# Altium schematic symbol library SamacSys.SchLib: 44 symbols
Pins are listed as number, name and electrical type; pins without a type are passive.

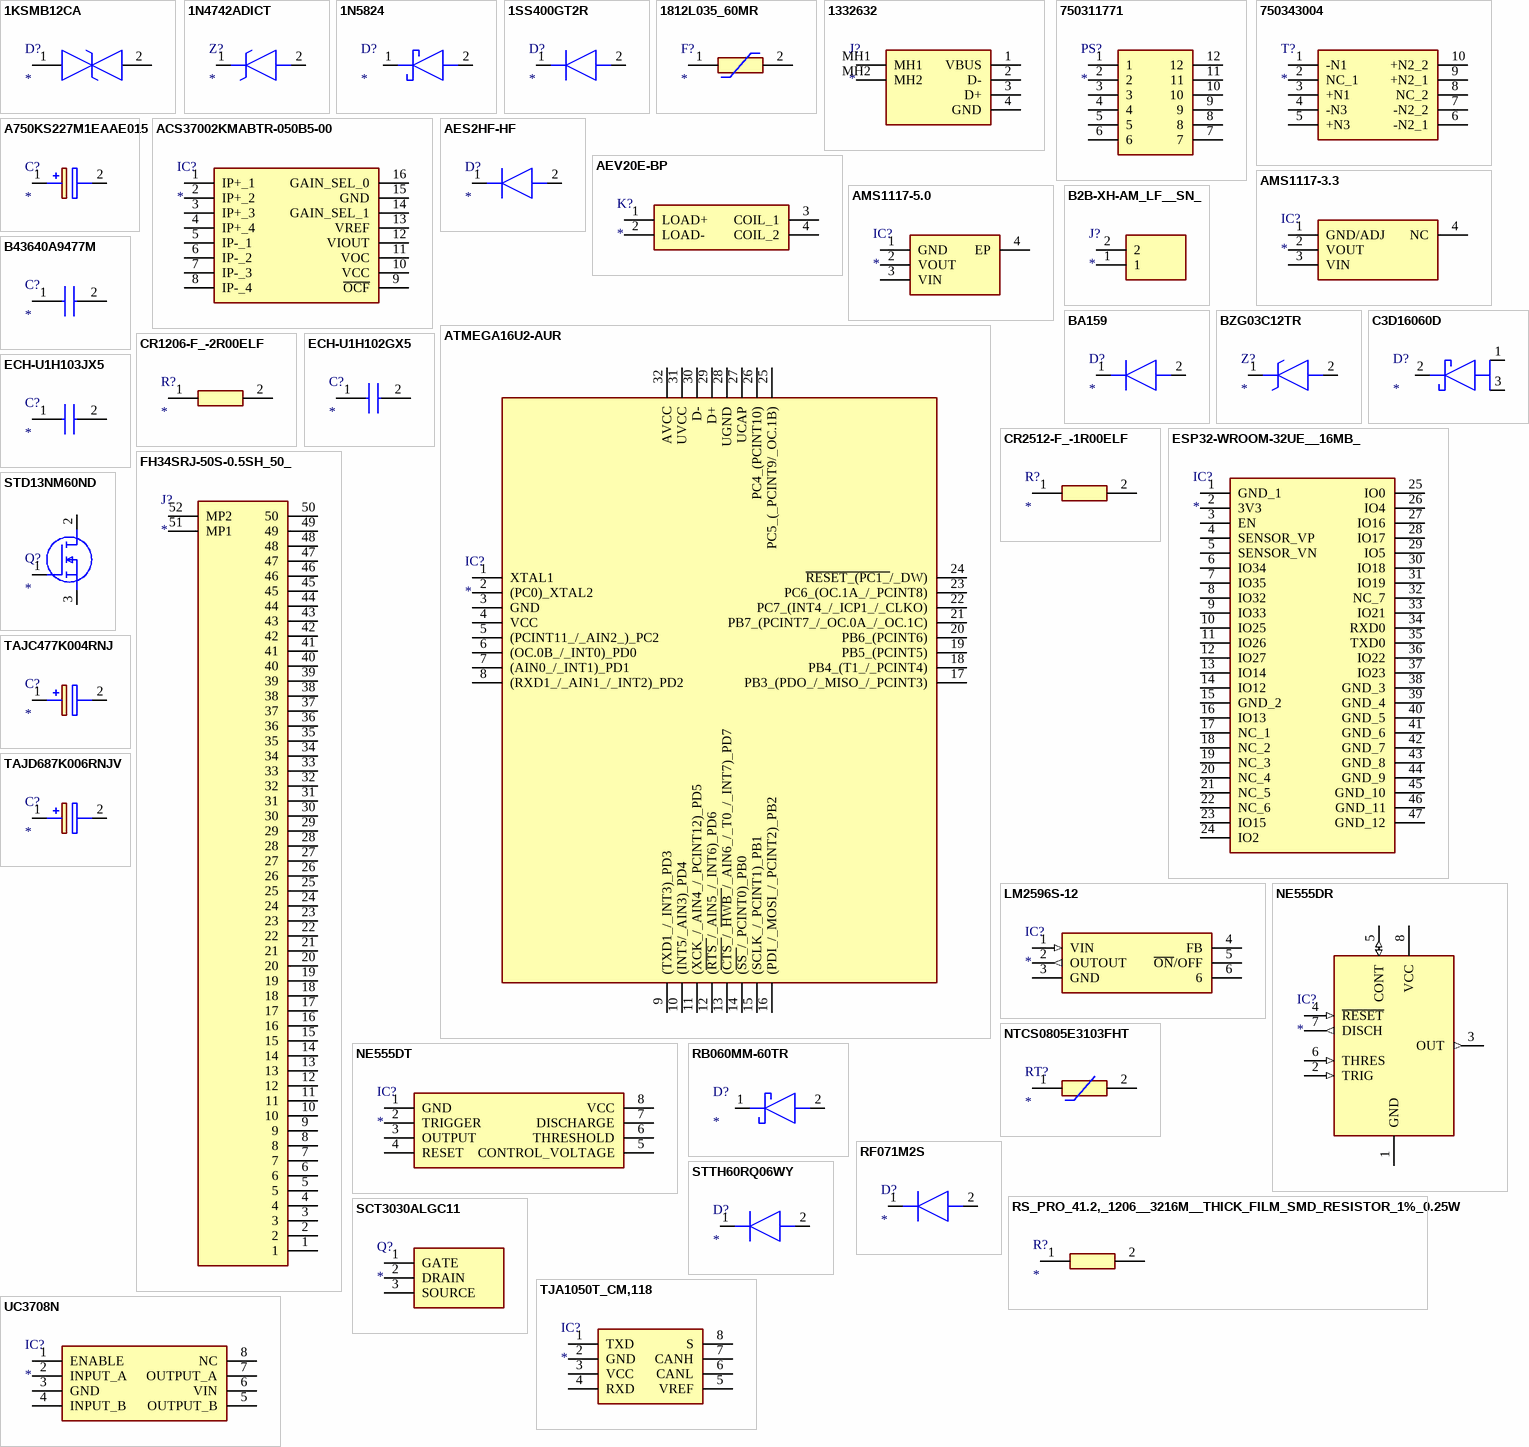
[diagram p0: symbols 1KSMB12CA to UC3708N]

## 1KSMB12CA
designator D?
TVS Diode (Bi-directional); Manufacturer_Name: LITTELFUSE; Manufacturer_Part_Number: 1KSMB12CA; Datasheet Link: https://m.littelfuse.com/~/media/electronics/datasheets/tvs_diodes/littelfuse_tvs_diode_1ksmb_datasheet.pdf.pdf; Height: 2.44mm; Mouser Part Number: 576-1KSMB12CA; Mouser Price/Stock: https://www.mouser.co.uk/ProductDetail/Littelfuse/1KSMB12CA?qs=MLCmBfHNlR40VmEIjryk1g%3D%3D
footprint DIONM5436X244N
pins: 1, 2

## 1N4742ADICT
designator Z?
Zener Diode; Manufacturer_Name: Diodes Incorporated; Manufacturer_Part_Number: 1N4742ADICT; Datasheet Link: https://www.diodes.com/assets/Datasheets/ds18007.pdf
footprint DIOAD1450W86L410D260
pins: 1 K, 2 A

## 1N5824
designator D?
Schottky Diode; Manufacturer_Name: Microchip; Manufacturer_Part_Number: 1N5824; Datasheet Link: https://www.microchip.com/en-us/product/1n5824-rectifier; Height: 11.43mm; Mouser Part Number: 494-1N5824; Mouser Price/Stock: https://www.mouser.co.uk/ProductDetail/Microchip-Technology/1N5824?qs=TXMzd3F6EyleEEWqakQxJw%3D%3D; Arrow Part Number: 1N5824; Arrow Price/Stock: https://www.arrow.com/en/products/1n5824/microchip-technology?utm_currency=USD&region=nac
footprint 1N5824
pins: 1 K, 2 A

## 1SS400GT2R
designator D?
Diode; Manufacturer_Name: ROHM Semiconductor; Manufacturer_Part_Number: 1SS400GT2R; Datasheet Link: https://datasheet.datasheetarchive.com/originals/distributors/Datasheets_SAMA/cd1f44d536d8a33a847ab70111d2a63d.pdf; Height: 0.55mm; Mouser Part Number: 755-1SS400GT2R; Mouser Price/Stock: https://www.mouser.com/Search/Refine.aspx?Keyword=755-1SS400GT2R; Arrow Part Number: 1SS400GT2R; Arrow Price/Stock: https://www.arrow.com/en/products/1ss400gt2r/rohm-semiconductor
footprint SODFL1406X55N
pins: 1 K, 2 A

## 1812L035_60MR
designator F?
Resettable Fuse; Manufacturer_Name: LITTELFUSE; Manufacturer_Part_Number: 1812L035/60MR; Datasheet Link: http://www.littelfuse.com/~/media/electronics/datasheets/resettable_ptcs/littelfuse_ptc_1812l_datasheet.pdf.pdf; Height: 1.25mm; Mouser Part Number: 576-1812L035/60MR; Mouser Price/Stock: https://www.mouser.co.uk/ProductDetail/Littelfuse/1812L035-60MR?qs=lM4gFlnEeEOrla%2FeqRq7dw%3D%3D; Arrow Part Number: 1812L035/60MR; Arrow Price/Stock: https://www.arrow.com/en/products/1812l03560mr/littelfuse?region=nac
footprint 1812L010DR
pins: 1, 2

## 1332632
designator J?
Connector; Manufacturer_Name: Phoenix Contact; Manufacturer_Part_Number: 1332632; Datasheet Link: http://www.phoenixcontact.com/de/produkte/1332632; Height: 14.9mm
footprint 1332632
pins: 1 VBUS, 2 D-, 3 D+, 4 GND, MH1, MH2

## 750311771
designator PS?
Power Supply; Manufacturer_Name: Wurth Elektronik; Manufacturer_Part_Number: 750311771; Datasheet Link: https://katalog.we-online.com/pbs/datasheet/750311771.pdf; Height: 13.69mm; Mouser Part Number: 710-750311771; Mouser Price/Stock: https://www.mouser.co.uk/ProductDetail/Wurth-Elektronik/750311771?qs=J4sk5G6CMwYUnCXRsU%2FeCw%3D%3D
footprint 750311771
pins: 1, 2, 3, 4, 5, 6, 7, 8, 9, 10, 11, 12

## 750343004
designator T?
Transformer; Manufacturer_Name: Wurth Elektronik; Manufacturer_Part_Number: 750343004; Datasheet Link: https://www.we-online.com/components/products/datasheet/750343004.pdf; Height: 33mm; Mouser Part Number: 710-750343004; Mouser Price/Stock: https://www.mouser.co.uk/ProductDetail/Wurth-Elektronik/750343004?qs=qSfuJ%252Bfl%2Fd4FjYhb4NkX3Q%3D%3D
footprint 750343004
pins: 1 -N1, 2 NC_1, 3 +N1, 4 -N3, 5 +N3, 6 -N2_1, 7 -N2_2, 8 NC_2, 9 +N2_1, 10 +N2_2

## A750KS227M1EAAE015
designator C?
Capacitor Polarised; Manufacturer_Name: KEMET; Manufacturer_Part_Number: A750KS227M1EAAE015; Datasheet Link: https://connect.kemet.com:7667/gateway/IntelliData-ComponentDocumentation/1.0/download/datasheet/A750KS227M1EAAE015; Height: 13mm; Mouser Part Number: 80-A750KS227M1EAAE15; Mouser Price/Stock: https://www.mouser.co.uk/ProductDetail/KEMET/A750KS227M1EAAE015?qs=M6jHmRuQorVVYu2x6u6i1w%3D%3D; Arrow Part Number: A750KS227M1EAAE015; Arrow Price/Stock: https://www.arrow.com/en/products/a750ks227m1eaae015/kemet-corporation?region=nac
footprint CAPPRD350W65D800H1300
pins: 1 +, 2 -

## ACS37002KMABTR-050B5-00
designator IC?
Integrated Circuit; Manufacturer_Name: Allegro Microsystems; Manufacturer_Part_Number: ACS37002KMABTR-050B5-00; Datasheet Link: https://www.allegromicro.com/en/products/sense/current-sensor-ics/zero-to-fifty-amp-integrated-conductor-sensor-ics/acs37002; Height: 2.65mm
footprint SOIC127P1030X265-16N
pins: 1 IP+_1, 2 IP+_2, 3 IP+_3, 4 IP+_4, 5 IP-_1, 6 IP-_2, 7 IP-_3, 8 IP-_4, 9 ~{OCF}, 10 VCC, 11 VOC, 12 VIOUT, 13 VREF, 14 GAIN_SEL_1, 15 GND, 16 GAIN_SEL_0

## AES2HF-HF
designator D?
Diode; Manufacturer_Name: Comchip Technology; Manufacturer_Part_Number: AES2HF-HF; Datasheet Link: https://www.comchiptech.com/product.php?id=12661; Height: 1.1mm; Mouser Part Number: 750-AES2HF-HF; Mouser Price/Stock: https://www.mouser.co.uk/ProductDetail/Comchip-Technology/AES2HF-HF?qs=GBLSl2Akirufo1pW%252B4BBNA%3D%3D
footprint SODFL5226X110N
pins: 1 K, 2 A

## AEV20E-BP
designator K?
Relay or Contactor; Manufacturer_Name: Altran Magnetics; Manufacturer_Part_Number: AEV20E-BP; Datasheet Link: https://www.altranmagnetics.com/media/2024/07/AEV20E_DataSheet_26May2024.pdf; Height: 32.7mm; Arrow Part Number: AEV20E-BP; Arrow Price/Stock: https://www.arrow.com/en/products/aev20e-bp/altran-magnetics-inc?utm_currency=USD&region=europe
footprint AEV20EBP
pins: 1 LOAD+, 2 LOAD-, 3 COIL_1, 4 COIL_2

## AMS1117-3.3
designator IC?
Integrated Circuit; Manufacturer_Name: Advanced; Manufacturer_Part_Number: AMS1117-3.3; Datasheet Link: https://datasheet.datasheetarchive.com/originals/distributors/Datasheets-28/DSA-550594.pdf; Height: 1.8mm
footprint SOT229P700X180-4N
pins: 1 GND/ADJ, 2 VOUT, 3 VIN, 4 NC

## AMS1117-5.0
designator IC?
Integrated Circuit; Manufacturer_Name: Shikues; Manufacturer_Part_Number: AMS1117-5.0; Description: Low Dropout Regulators(LDO) SOT-223 RoHS; Datasheet Link: https://datasheet.lcsc.com/szlcsc/SK-AMS1117-5-0_C165483.pdf; Height: 1.8mm
footprint SOT290P700X180-4N
pins: 1 GND, 2 VOUT, 3 VIN, 4 EP

## ATMEGA16U2-AUR
designator IC?
Integrated Circuit; Manufacturer_Name: Microchip; Manufacturer_Part_Number: ATMEGA16U2-AUR; Datasheet Link: https://ww1.microchip.com/downloads/en/DeviceDoc/7799S.pdf; Height: 1.2mm; Mouser Part Number: 556-ATMEGA16U2-AUR; Mouser Price/Stock: https://www.mouser.co.uk/ProductDetail/Microchip-Technology/ATMEGA16U2-AUR?qs=rBGENRD8NwLx5xMLx7zojQ%3D%3D; Arrow Part Number: ATMEGA16U2-AUR; Arrow Price/Stock: https://www.arrow.com/en/products/atmega16u2-aur/microchip-technology
footprint QFP80P900X900X120-32N
pins: 1 XTAL1, 2 (PC0)_XTAL2, 3 GND, 4 VCC, 5 (PCINT11_/_AIN2_)_PC2, 6 (OC.0B_/_INT0)_PD0, 7 (AIN0_/_INT1)_PD1, 8 (RXD1_/_AIN1_/_INT2)_PD2, 9 (TXD1_/_INT3)_PD3, 10 (INT5/_AIN3)_PD4, 11 (XCK_/_AIN4_/_PCINT12)_PD5, 12 (~{RTS_}/_AIN5_/_INT6)_PD6, 13 (~{CTS_}/_~{HWB_}/_AIN6_/_T0_/_INT7)_PD7, 14 (~{SS_}/_PCINT0)_PB0, 15 (SCLK_/_PCINT1)_PB1, 16 (PDI_/_MOSI_/_PCINT2)_PB2, 17 PB3_(PDO_/_MISO_/_PCINT3), 18 PB4_(T1_/_PCINT4), 19 PB5_(PCINT5), 20 PB6_(PCINT6), 21 PB7_(PCINT7_/_OC.0A_/_OC.1C), 22 PC7_(INT4_/_ICP1_/_CLKO), 23 PC6_(OC.1A_/_PCINT8), 24 ~{RESET_(PC1_}/_DW), 25 PC5_(_PCINT9/_OC.1B), 26 PC4_(PCINT10), 27 UCAP, 28 UGND, 29 D+, 30 D-, 31 UVCC, 32 AVCC

## B2B-XH-AM_LF__SN_
designator J?
Connector; Manufacturer_Name: JST (JAPAN SOLDERLESS TERMINALS); Manufacturer_Part_Number: B2B-XH-AM(LF)(SN); Datasheet Link: https://www.jst-mfg.com/product/pdf/eng/eXH.pdf; Height: 7mm; Mouser Part Number: 306-B2B-XH-AMLFSNP; Mouser Price/Stock: https://www.mouser.co.uk/ProductDetail/JST-Commercial/B2B-XH-AMLFSN?qs=cdbOS8ANM9BJgHgwB7WxQw%3D%3D; Arrow Part Number: B2B-XH-AM(LF)(SN); Arrow Price/Stock: https://www.arrow.com/en/products/b2b-xh-am-lf-sn/jst-manufacturing?utm_currency=USD&region=europe
footprint B2BXHAMLFSN
pins: 1, 2

## B43640A9477M
designator C?
Capacitor; Manufacturer_Name: TDK; Manufacturer_Part_Number: B43640A9477M; Datasheet Link: https://componentsearchengine.com/Datasheets/1/B43640A9477M.pdf; Height: 52mm; Mouser Part Number: 871-B43640A9477M; Mouser Price/Stock: https://www.mouser.co.uk/ProductDetail/EPCOS-TDK/B43640A9477M?qs=%252BQVNAtq6ERp3tNip2ILo8Q%3D%3D
footprint CAPPRD1000W170D2600H5200
pins: 1 +, 2 -

## BA159
designator D?
Diode; Manufacturer_Name: Rectron; Manufacturer_Part_Number: BA159; Datasheet Link: http://pdf1.alldatasheet.com/datasheet-pdf/view/14648/PANJIT/BA159.html; Mouser Part Number: 583-BA159; Mouser Price/Stock: https://www.mouser.co.uk/ProductDetail/Rectron/BA159?qs=7pEAo90IqNFl%2FmbY1pJmIw%3D%3D
footprint DIOAD1405W86L465D235
pins: 1 K, 2 A

## BZG03C12TR
designator Z?
Zener Diode; Manufacturer_Name: Vishay; Manufacturer_Part_Number: BZG03C12TR; Datasheet Link: https://datasheet.datasheetarchive.com/originals/distributors/Datasheets-DGA23/1548916.pdf; Height: 2.3mm; Mouser Part Number: 78-BZG03C12; Mouser Price/Stock: https://www.mouser.co.uk/ProductDetail/Vishay-Semiconductors/BZG03C12TR?qs=vcNEnGV6fuVcAi%2Ff9qbylQ%3D%3D; Arrow Part Number: BZG03C12TR; Arrow Price/Stock: https://www.arrow.com/en/products/bzg03c12tr/vishay
footprint DIOM5226X230N
pins: 1 K, 2 A

## C3D16060D
designator D?
Schottky Diode with Dual Anode; Manufacturer_Name: Wolfspeed; Manufacturer_Part_Number: C3D16060D; Datasheet Link: https://assets.wolfspeed.com/uploads/2023/12/Wolfspeed_C3D16060D_data_sheet.pdf; Height: 5.21mm; Mouser Part Number: 941-C3D16060D; Mouser Price/Stock: https://www.mouser.co.uk/ProductDetail/Wolfspeed-Cree/C3D16060D?qs=iZ%2F0OASmz3NcJD5UAMyLhA%3D%3D; Arrow Part Number: C3D16060D; Arrow Price/Stock: https://www.arrow.com/en/products/c3d16060d/cree
footprint TO544P521X1594X2574-3P
pins: 1 A1, 2 K, 3 A2

## CR1206-F_-2R00ELF
designator R?
Resistor; Manufacturer_Name: Bourns; Manufacturer_Part_Number: CR1206-F/-2R00ELF; Height: 0.75mm; Mouser Part Number: 652-CR1206-F/2R00ELF; Mouser Price/Stock: https://www.mouser.co.uk/ProductDetail/Bourns/CR1206-F-2R00ELF?qs=W%2FMpXkg%252BdQ47Z%2FeZv1nDSg%3D%3D
footprint RESC3216X75N
pins: 1, 2

## CR2512-F_-1R00ELF
designator R?
Resistor; Manufacturer_Name: Bourns; Manufacturer_Part_Number: CR2512-F/-1R00ELF; Height: 0.75mm; Mouser Part Number: 652-CR2512-F/1R00ELF; Mouser Price/Stock: https://www.mouser.co.uk/ProductDetail/Bourns/CR2512-F-1R00ELF?qs=W%2FMpXkg%252BdQ6b1PcPiGLK9Q%3D%3D; Arrow Part Number: CR2512-F/-1R00ELF; Arrow Price/Stock: https://www.arrow.com/en/products/cr2512-f-1r00elf/bourns?region=europe
footprint RESC6331X75N
pins: 1, 2

## ECH-U1H102GX5
designator C?
Capacitor; Manufacturer_Name: Panasonic; Manufacturer_Part_Number: ECH-U1H102GX5; Datasheet Link: http://industrial.panasonic.com/cdbs/www-data/pdf/RDI0000/ABD0000C173.pdf; Mouser Part Number: 667-ECH-U1H102GX5; Mouser Price/Stock: https://www.mouser.co.uk/ProductDetail/Panasonic/ECH-U1H102GX5?qs=DWeLBnRir%2FIlo4Nc0F6AmQ%3D%3D; Arrow Part Number: ECH-U1H102GX5; Arrow Price/Stock: https://www.arrow.com/en/products/echu1h102gx5/panasonic?region=europe
footprint ECHU_J1_J2_17_21
pins: 1, 2

## ECH-U1H103JX5
designator C?
Capacitor; Manufacturer_Name: Panasonic; Manufacturer_Part_Number: ECH-U1H103JX5; Datasheet Link: http://industrial.panasonic.com/cdbs/www-data/pdf/RDI0000/ABD0000C173.pdf; Mouser Part Number: 667-ECH-U1H103JX5; Mouser Price/Stock: https://www.mouser.co.uk/ProductDetail/Panasonic/ECH-U1H103JX5?qs=DWeLBnRir%2FKXzBiYfsg83Q%3D%3D; Arrow Part Number: ECH-U1H103JX5; Arrow Price/Stock: https://www.arrow.com/en/products/ech-u1h103jx5/panasonic?region=europe
footprint ECHU_H1_H2
pins: 1, 2

## ESP32-WROOM-32UE__16MB_
designator IC?
Integrated Circuit; Manufacturer_Name: Espressif Systems; Manufacturer_Part_Number: ESP32-WROOM-32UE (16MB); Datasheet Link: https://www.espressif.com/sites/default/files/documentation/esp32-wroom-32e_esp32-wroom-32ue_datasheet_en.pdf; Height: 3.35mm; Mouser Part Number: 356-ESP32WRM32UE28UH; Mouser Price/Stock: https://www.mouser.co.uk/ProductDetail/Espressif-Systems/ESP32-WROOM-32UE-16MB?qs=GBLSl2Akirs3f35lmWvJMw%3D%3D
footprint ESP32WROOM32UE16MB
pins: 1 GND_1, 2 3V3, 3 EN, 4 SENSOR_VP, 5 SENSOR_VN, 6 IO34, 7 IO35, 8 IO32, 9 IO33, 10 IO25, 11 IO26, 12 IO27, 13 IO14, 14 IO12, 15 GND_2, 16 IO13, 17 NC_1, 18 NC_2, 19 NC_3, 20 NC_4, 21 NC_5, 22 NC_6, 23 IO15, 24 IO2, 25 IO0, 26 IO4, 27 IO16, 28 IO17, 29 IO5, 30 IO18, 31 IO19, 32 NC_7, 33 IO21, 34 RXD0, 35 TXD0, 36 IO22, 37 IO23, 38 GND_3, 39 GND_4, 40 GND_5, 41 GND_6, 42 GND_7, 43 GND_8, 44 GND_9, 45 GND_10, 46 GND_11, 47 GND_12

## FH34SRJ-50S-0.5SH_50_
designator J?
Connector; Manufacturer_Name: Hirose; Manufacturer_Part_Number: FH34SRJ-50S-0.5SH(50); Datasheet Link: https://www.hirose.com/en/product/document?clcode=CL0580-1266-2-50&productname=FH34SRJ-50S-0.5SH(50)&series=FH34SRJ&documenttype=2DDrawing&lang=en&documentid=0001483059; Height: 1.75mm; Mouser Part Number: 798-FH34SRJ50S05SH50; Mouser Price/Stock: https://www.mouser.co.uk/ProductDetail/Hirose-Connector/FH34SRJ-50S-0.5SH50?qs=vcbW%252B4%252BSTIrLLD%2F8H%2F%252B%2Fhg%3D%3D
footprint FH34SRJ50S05SH50
pins: 1, 2, 3, 4, 5, 6, 7, 8, 9, 10, 11, 12, 13, 14, 15, 16, 17, 18, 19, 20, 21, 22, 23, 24, 25, 26, 27, 28, 29, 30, 31, 32, 33, 34, 35, 36, 37, 38, 39, 40, 41, 42, 43, 44, 45, 46, 47, 48, 49, 50, 51 MP1, 52 MP2

## LM2596S-12
designator IC?
Integrated Circuit; Manufacturer_Name: Texas Instruments; Manufacturer_Part_Number: LM2596S-12; Datasheet Link: http://www.ti.com/lit/ds/symlink/lm2596.pdf; Mouser Part Number: 926-LM2596S-12; Mouser Price/Stock: https://www.mouser.co.uk/ProductDetail/Texas-Instruments/LM2596S-12?qs=X1J7HmVL2ZEK1FPBBSYJCA%3D%3D; Arrow Part Number: LM2596S-12; Arrow Price/Stock: https://www.arrow.com/en/products/lm2596s-12/texas-instruments
footprint KTT0005B
pins: 1 VIN (in), 2 OUTOUT (out), 3 GND, 4 FB, 5 ~{ON}/OFF, 6

## NE555DR
designator IC?
Integrated Circuit; Manufacturer_Name: Texas Instruments; Manufacturer_Part_Number: NE555DR; Datasheet Link: http://www.ti.com/lit/ds/symlink/ne555.pdf; Height: 1.75mm; Mouser Part Number: 595-NE555DR; Mouser Price/Stock: https://www.mouser.com/Search/Refine.aspx?Keyword=595-NE555DR; RS Part Number: 1218414; RS Price/Stock: http://uk.rs-online.com/web/p/products/1218414
footprint SOIC127P600X175-8N
pins: 1 GND (power), 2 TRIG (in), 3 OUT (out), 4 ~{RESET} (in), 5 CONT (io), 6 THRES (in), 7 DISCH (out), 8 VCC (power)

## NE555DT
designator IC?
Integrated Circuit; Manufacturer_Name: STMicroelectronics; Manufacturer_Part_Number: NE555DT; Datasheet Link: http://www.st.com/st-web-ui/static/active/en/resource/technical/document/datasheet/CD00000479.pdf; Height: 1.75mm; Mouser Part Number: 511-NE555DT; Mouser Price/Stock: https://www.mouser.co.uk/ProductDetail/STMicroelectronics/NE555DT?qs=DrEmA9jAILYJbUXDNl1nww%3D%3D; Arrow Part Number: NE555DT; Arrow Price/Stock: https://www.arrow.com/en/products/ne555dt/stmicroelectronics
footprint SOIC127P600X175-8N
pins: 1 GND, 2 TRIGGER, 3 OUTPUT, 4 RESET, 5 CONTROL_VOLTAGE, 6 THRESHOLD, 7 DISCHARGE, 8 VCC

## NTCS0805E3103FHT
designator RT?
Thermistor; Manufacturer_Name: Vishay; Manufacturer_Part_Number: NTCS0805E3103FHT; Datasheet Link: http://www.vishay.com/docs/29044/ntcs0805e3t.pdf; Height: 0.95mm; Mouser Part Number: 594-NTCS0805E3103FHT; Mouser Price/Stock: https://www.mouser.co.uk/ProductDetail/Vishay-BC-Components/NTCS0805E3103FHT?qs=%2FWiulJ9oly74KIuevFiaAw%3D%3D; Arrow Part Number: NTCS0805E3103FHT; Arrow Price/Stock: https://www.arrow.com/en/products/ntcs0805e3103fht/vishay
footprint THRMC2012X95N
pins: 1, 2

## RB060MM-60TR
designator D?
Schottky Diode; Manufacturer_Name: ROHM Semiconductor; Manufacturer_Part_Number: RB060MM-60TR; Datasheet Link: https://fscdn.rohm.com/en/products/databook/datasheet/discrete/diode/schottky_barrier/rb060mm-60tr-e.pdf; Height: 0.9mm; Mouser Part Number: 755-RB060MM-60TR; Mouser Price/Stock: https://www.mouser.co.uk/ProductDetail/ROHM-Semiconductor/RB060MM-60TR?qs=pXoXL5qUNJ2vKE7Ece3nVg%3D%3D
footprint RB060MM60TR
pins: 1 K, 2 A

## RF071M2S
designator D?
Diode; Manufacturer_Name: ROHM Semiconductor; Manufacturer_Part_Number: RF071M2S; Datasheet Link: http://rohmfs.rohm.com/en/products/databook/datasheet-nrnd/discrete/diode/fast_recovery/rf071m2s.pdf; Height: 0.9mm; Mouser Part Number: N/A; Mouser Price/Stock: https://www.mouser.co.uk/ProductDetail/ROHM-Semiconductor/RF071M2S?qs=OfeFRKQgECgpuFmwKn2lvw%3D%3D
footprint RF071M2S
pins: 1 K, 2 A

## RS_PRO_41.2,_1206__3216M__THICK_FILM_SMD_RESISTOR_1%_0.25W
designator R?
Resistor; Manufacturer_Name: RS Pro; Manufacturer_Part_Number: RS PRO 41.2O; Datasheet Link: https://docs.rs-online.com/28ed/0900766b8157b2d3.pdf; Height: 0.65mm
footprint RESC3116X65N
pins: 1, 2

## SCT3030ALGC11
designator Q?
Transistor; Manufacturer_Name: ROHM Semiconductor; Manufacturer_Part_Number: SCT3030ALGC11; Datasheet Link: https://datasheet.datasheetarchive.com/originals/distributors/DKDS-18/357094.pdf; Height: 5.15mm; Mouser Part Number: 755-SCT3030ALGC11; Mouser Price/Stock: https://www.mouser.co.uk/ProductDetail/ROHM-Semiconductor/SCT3030ALGC11?qs=tlR8i4ZVbUfmf0QVOgVHPA%3D%3D
footprint TO545P515X1600X2535-3P
pins: 1 GATE, 2 DRAIN, 3 SOURCE

## STD13NM60ND
designator Q?
MOSFET (N-Channel); Manufacturer_Name: STMicroelectronics; Manufacturer_Part_Number: STD13NM60ND; Datasheet Link: https://mm.digikey.com/Volume0/opasdata/d220001/medias/docus/516/STx13NM60ND_DS.pdf; Height: 2.63mm; Mouser Part Number: 511-STD13NM60ND; Mouser Price/Stock: https://www.mouser.co.uk/ProductDetail/STMicroelectronics/STD13NM60ND?qs=DqCdCwOw4%2F6kZ%252B3qCIf%2FhQ%3D%3D; Arrow Part Number: STD13NM60ND; Arrow Price/Stock: https://www.arrow.com/en/products/std13nm60nd/stmicroelectronics?region=nac
footprint STD13NM60ND
pins: 1 G, 2 D, 3 S

## STTH60RQ06WY
designator D?
Diode; Manufacturer_Name: STMicroelectronics; Manufacturer_Part_Number: STTH60RQ06WY; Datasheet Link: https://www.st.com/resource/en/datasheet/stth60rq06-y.pdf; Height: 5.15mm; Mouser Part Number: 511-STTH60RQ06WY; Mouser Price/Stock: https://www.mouser.co.uk/ProductDetail/STMicroelectronics/STTH60RQ06WY?qs=MLItCLRbWsyVCwranNoGkg%3D%3D
footprint TO1090P515X1560X2445-2P
pins: 1 K, 2 A

## TAJC477K004RNJ
designator C?
Capacitor Polarised; Manufacturer_Name: Kyocera AVX; Manufacturer_Part_Number: TAJC477K004RNJ; Datasheet Link: http://datasheets.avx.com/TAJ.pdf; Height: 2.8mm; Mouser Part Number: 581-TAJC477K004RNJ; Mouser Price/Stock: https://www.mouser.com/Search/Refine.aspx?Keyword=581-TAJC477K004RNJ; Arrow Part Number: TAJC477K004RNJ; Arrow Price/Stock: https://www.arrow.com/en/products/tajc477k004rnj/avx
footprint CAPPM6032X280N
pins: 1 +, 2 -

## TAJD687K006RNJV
designator C?
Capacitor Polarised; Manufacturer_Name: Kyocera AVX; Manufacturer_Part_Number: TAJD687K006RNJV; Datasheet Link: http://datasheets.avx.com/TAJ.pdf; Height: 3.1mm; Mouser Part Number: 581-TAJD687K006RNJV; Mouser Price/Stock: https://www.mouser.com/Search/Refine.aspx?Keyword=581-TAJD687K006RNJV
footprint CAPPM7344X310N
pins: 1 +, 2 -

## TJA1050T_CM,118
designator IC?
Integrated Circuit; Manufacturer_Name: NXP; Manufacturer_Part_Number: TJA1050T/CM,118; Datasheet Link: http://www.nxp.com/docs/en/data-sheet/TJA1050.pdf; Height: 1.75mm; Mouser Part Number: 771-TJA1050T/CM118; Mouser Price/Stock: https://www.mouser.co.uk/ProductDetail/NXP-Semiconductors/TJA1050T-CM118?qs=5XOdhvmYM0NFFspw0VP5sA%3D%3D; Arrow Part Number: TJA1050T/CM,118; Arrow Price/Stock: https://www.arrow.com/en/products/tja1050tcm118/nxp-semiconductors?utm_currency=USD&region=europe
footprint SOIC127P600X175-8N
pins: 1 TXD, 2 GND, 3 VCC, 4 RXD, 5 VREF, 6 CANL, 7 CANH, 8 S

## UC3708N
designator IC?
Integrated Circuit; Manufacturer_Name: Texas Instruments; Manufacturer_Part_Number: UC3708N; Datasheet Link: http://www.ti.com/lit/ds/symlink/uc3708.pdf; Height: 5.08mm; Mouser Part Number: 595-UC3708N; Mouser Price/Stock: https://www.mouser.co.uk/ProductDetail/Texas-Instruments/UC3708N?qs=fZz%252BEhgUXdgc5qLreY%252Bj6A%3D%3D; Arrow Part Number: UC3708N; Arrow Price/Stock: https://www.arrow.com/en/products/uc3708n/texas-instruments?region=nac
footprint DIP794W53P254L959H508Q8N
pins: 1 ENABLE, 2 INPUT_A, 3 GND, 4 INPUT_B, 5 OUTPUT_B, 6 VIN, 7 OUTPUT_A, 8 NC

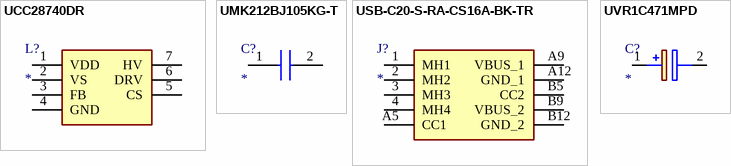
[diagram p1: symbols UCC28740DR to UVR1C471MPD]

## UCC28740DR
designator L?
Inductor; Manufacturer_Name: Texas Instruments; Manufacturer_Part_Number: UCC28740DR; Datasheet Link: http://www.ti.com/lit/gpn/ucc28740; Mouser Part Number: 595-UCC28740DR; Mouser Price/Stock: https://www.mouser.co.uk/ProductDetail/Texas-Instruments/UCC28740DR?qs=e1ok2LiJcmZNvNsbUBmieA%3D%3D; Arrow Part Number: UCC28740DR; Arrow Price/Stock: https://www.arrow.com/en/products/ucc28740dr/texas-instruments?region=nac
footprint D(R-PDSO-G7)
pins: 1 VDD, 2 VS, 3 FB, 4 GND, 5 CS, 6 DRV, 7 HV

## UMK212BJ105KG-T
designator C?
Capacitor; Manufacturer_Name: TAIYO YUDEN; Manufacturer_Part_Number: UMK212BJ105KG-T; Datasheet Link: http://www.mouser.com/datasheet/2/396/mlcc02_e-1307760.pdf; Height: 1.35mm; Mouser Part Number: 963-UMK212BJ105KG-T; Mouser Price/Stock: https://www.mouser.co.uk/ProductDetail/Taiyo-Yuden/UMK212BJ105KG-T?qs=PzICbMaShUftDQ%252BbCBXU3A%3D%3D; Arrow Part Number: UMK212BJ105KG-T; Arrow Price/Stock: https://www.arrow.com/en/products/umk212bj105kg-t/taiyo-yuden
footprint CAPC2012X135N
pins: 1, 2

## USB-C20-S-RA-CS16A-BK-TR
designator J?
Connector; Manufacturer_Name: Adam Tech; Manufacturer_Part_Number: USB-C20-S-RA-CS16A-BK-TR; Datasheet Link: chrome-extension://efaidnbmnnnibpcajpcglclefindmkaj/https://www.mouser.com/datasheet/2/4/usb_c20_s_ra_cs16a_bk_tr_data_sheet-3519073.pdf; Height: 3.48mm
footprint USBC20SRACS16ABKTR
pins: 1 MH1, 2 MH2, 3 MH3, 4 MH4, A5 CC1, A9 VBUS_1, A12 GND_1, B5 CC2, B9 VBUS_2, B12 GND_2

## UVR1C471MPD
designator C?
Capacitor Polarised; Manufacturer_Name: Nichicon; Manufacturer_Part_Number: UVR1C471MPD; Datasheet Link: https://www.nichicon.co.jp/english/series_items/catalog_pdf/e-uvr.pdf; Height: 13mm; Arrow Part Number: UVR1C471MPD; Arrow Price/Stock: https://www.arrow.com/en/products/uvr1c471mpd/nichicon
footprint CAPPRD350W60D825H1300
pins: 1 +, 2 -